# EAGLE library part RN2483 (library chiptron_petus_cz)
RN2483 LoRa module by microchip
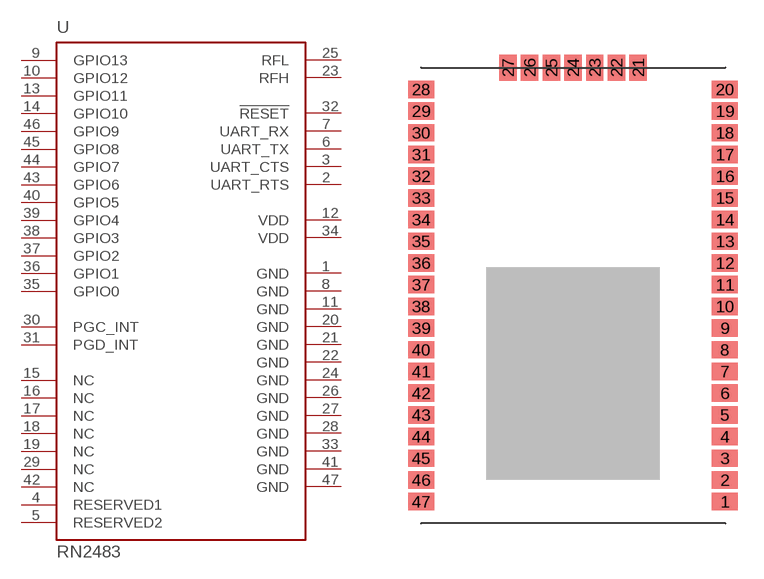
[diagram p13: symbol with the pads of RN2483; footprint RN2483]

Designator prefix -

## RN2483  [RN2483]
1  GND
2  UART_RTS
3  UART_CTS
4  RESERVED1
5  RESERVED2
6  UART_TX
7  UART_RX
8  GND
9  GPIO13
10  GPIO12
11  GND
12  VDD
13  GPIO11
14  GPIO10
15  NC
16  NC
17  NC
18  NC
19  NC
20  GND
21  GND
22  GND
23  RFH
24  GND
25  RFL
26  GND
27  GND
28  GND
29  NC
30  PGC_INT
31  PGD_INT
32  !RESET
33  GND
34  VDD
35  GPIO0
36  GPIO1
37  GPIO2
38  GPIO3
39  GPIO4
40  GPIO5
41  GND
42  NC
43  GPIO6
44  GPIO7
45  GPIO8
46  GPIO9
47  GND

## Footprint RN2483 (pad centres in mm)
RN2843 LoRa module by Microchip
smd 1.524 x 1.016: 1 8.89,-15.24; 2 8.89,-13.97; 3 8.89,-12.7; 4 8.89,-11.43; 5 8.89,-10.16; 6 8.89,-8.89; 7 8.89,-7.62; 8 8.89,-6.35; 9 8.89,-5.08; 10 8.89,-3.81; 11 8.89,-2.54; 12 8.89,-1.27; 13 8.89,0; 14 8.89,1.27; 15 8.89,2.54; 16 8.89,3.81; 17 8.89,5.08; 18 8.89,6.35; 19 8.89,7.62; 20 8.89,8.89; 28 -8.89,8.89; 29 -8.89,7.62; 30 -8.89,6.35; 31 -8.89,5.08; 32 -8.89,3.81; 33 -8.89,2.54; 34 -8.89,1.27; 35 -8.89,0; 36 -8.89,-1.27; 37 -8.89,-2.54; 38 -8.89,-3.81; 39 -8.89,-5.08; 40 -8.89,-6.35; 41 -8.89,-7.62; 42 -8.89,-8.89; 43 -8.89,-10.16; 44 -8.89,-11.43; 45 -8.89,-12.7; 46 -8.89,-13.97; 47 -8.89,-15.24
smd 1.016 x 1.524: 21 3.81,10.16; 22 2.54,10.16; 23 1.27,10.16; 24 0,10.16; 25 -1.27,10.16; 26 -2.54,10.16; 27 -3.81,10.16